# EAGLE library part MAX13256 (library wheat)
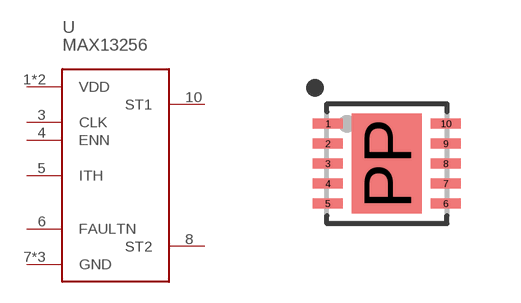
[diagram p246: symbol with the pads of QFN10_2_SILABS; footprint QFN10_2_SILABS]

Designator prefix -

## MAX13256ATB  [QFN10_2_SILABS]
1  VDD  pas
2  VDD  pas
3  CLK  in
4  ENN  in
5  ITH  pas
6  FAULTN  hiz
7  GND  pas
8  ST2  out
9  GND  pas
10  ST1  out
PP  GND  pas

## Footprint QFN10_2_SILABS (pad centres in mm)
smd 0.75 x 0.25: 1 -1.475,1; 2 -1.475,0.5; 3 -1.475,0; 4 -1.475,-0.5; 5 -1.475,-1; 6 1.475,-1; 7 1.475,-0.5; 8 1.475,0; 9 1.475,0.5; 10 1.475,1
smd 1.75 x 2.5: PP 0,0